# EAGLE library part CS42406 (library NewSDR)
Cirrus Logic 24-Bit, 192 kHz 2-In 6-Out Audio Codec
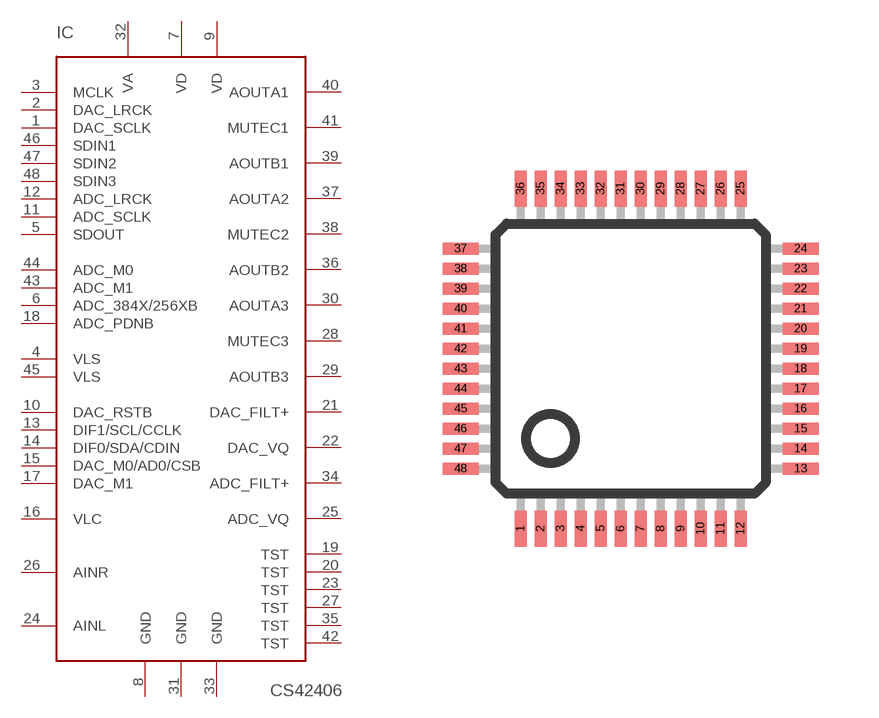
[diagram p34: symbol with the pads of LQFP-48; footprint LQFP-48]

Designator prefix IC

## CS42406  [LQFP-48]
1  DAC_SCLK  in
2  DAC_LRCK  in
3  MCLK  in
4  VLS  pwr
5  SDOUT  out
6  ADC_384X/256XB  in
7  VD  pwr
8  GND  pwr
9  VD  pwr
10  DAC_RSTB  in
11  ADC_SCLK
12  ADC_LRCK
13  DIF1/SCL/CCLK  in
14  DIF0/SDA/CDIN
15  DAC_M0/AD0/CSB  in
16  VLC  pwr
17  DAC_M1  in
18  ADC_PDNB  in
19  TST  pas
20  TST  pas
21  DAC_FILT+  pas
22  DAC_VQ  pas
23  TST  pas
24  AINL  in
25  ADC_VQ  pas
26  AINR  in
27  TST  pas
28  MUTEC3  out
29  AOUTB3  out
30  AOUTA3  out
31  GND  pwr
32  VA  pwr
33  GND  pwr
34  ADC_FILT+  pas
35  TST  pas
36  AOUTB2  out
37  AOUTA2  out
38  MUTEC2  out
39  AOUTB1  out
40  AOUTA1  out
41  MUTEC1  out
42  TST  pas
43  ADC_M1  in
44  ADC_M0  in
45  VLS  pwr
46  SDIN1  in
47  SDIN2  in
48  SDIN3  in

## Footprint LQFP-48 (pad centres in mm)
LQFP 48-Pin Low Profile Quad Flat Pack
smd 0.3 x 0.9: 1 -2.75,-4.25; 2 -2.25,-4.25; 3 -1.75,-4.25; 4 -1.25,-4.25; 5 -0.75,-4.25; 6 -0.25,-4.25; 7 0.25,-4.25; 8 0.75,-4.25; 9 1.25,-4.25; 10 1.75,-4.25; 11 2.25,-4.25; 12 2.75,-4.25; 25 2.75,4.25; 26 2.25,4.25; 27 1.75,4.25; 28 1.25,4.25; 29 0.75,4.25; 30 0.25,4.25; 31 -0.25,4.25; 32 -0.75,4.25; 33 -1.25,4.25; 34 -1.75,4.25; 35 -2.25,4.25; 36 -2.75,4.25
smd 0.9 x 0.3: 13 4.25,-2.75; 14 4.25,-2.25; 15 4.25,-1.75; 16 4.25,-1.25; 17 4.25,-0.75; 18 4.25,-0.25; 19 4.25,0.25; 20 4.25,0.75; 21 4.25,1.25; 22 4.25,1.75; 23 4.25,2.25; 24 4.25,2.75; 37 -4.25,2.75; 38 -4.25,2.25; 39 -4.25,1.75; 40 -4.25,1.25; 41 -4.25,0.75; 42 -4.25,0.25; 43 -4.25,-0.25; 44 -4.25,-0.75; 45 -4.25,-1.25; 46 -4.25,-1.75; 47 -4.25,-2.25; 48 -4.25,-2.75